# Altium footprint library LED.PcbLib: 55 footprints (part 4 of 4)
Each footprint in its own frame and in the unit in brackets; x right, y up, seen from the top. Pads: shape width x height; smd on the part's side, far side on the other; paste and mask are expansions set on the pad; w line width, h text height; cw(c..) or ccw(c..) is an arc to the next point about the centre after c.
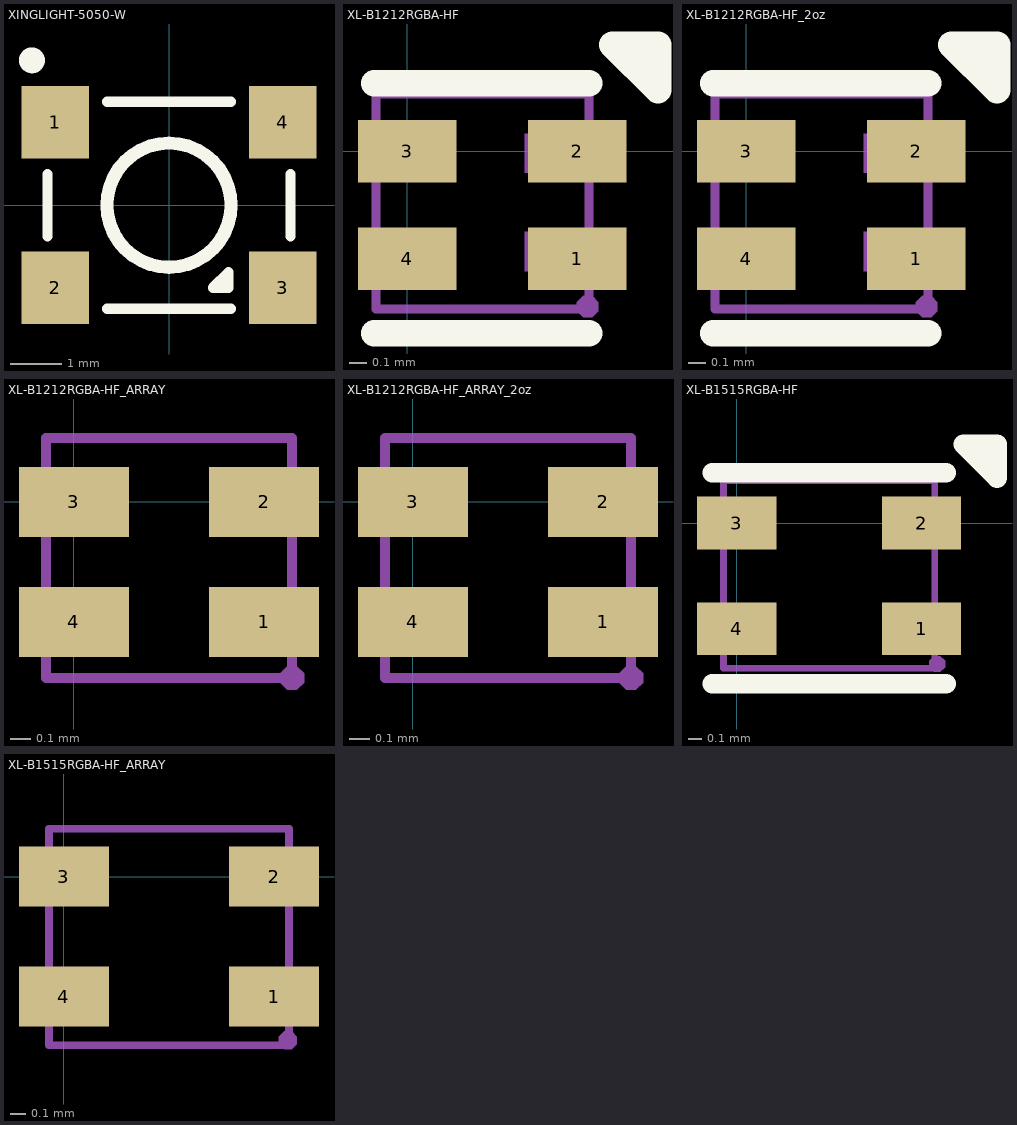
[diagram p3: the footprints below, top view; thin cyan lines are the x and y axes]

## XINGLIGHT-5050-W [mm] "XINGLIGHT(成兴光) SMD5050 推荐焊盘 白色"
pads (4):
  rect 1.3x1.4 smd: 1(-2.2,1.6) 2(-2.2,-1.6) 3(2.2,-1.6) 4(2.2,1.6)
Top Overlay:
  circle w0.25: c-2.65,2.8 r0.125
  circle w0.254: c0,0 r1.2
  lines w0.2: -2.35,-0.6 -2.35,0.6 ; -1.2,-2 1.2,-2 ; -1.2,2 1.2,2 ; 2.35,-0.6 2.35,0.6 ; 0.85,-1.6 1.15,-1.3 1.15,-1.6 0.85,-1.6
3D body "WS2812B-5050-W.step": height 1.58, standoff 0.01, extent -2.7,-2.5 2.7,2.5

## XL-B1212RGBA-HF [mm] "XL-B1212RGBA-HF 推荐焊盘 有标记版本"
pads (4):
  rect 0.55x0.35 smd mask+0.05: 1(0.95,-0.6) 2(0.95,0) 3(0,0) 4(0,-0.6)
Top Overlay:
  lines w0.15: -0.184,-1.016 1.016,-1.016 ; -0.184,0.381 1.016,0.381 ; 1.147,0.596 1.401,0.342 1.401,0.596 1.147,0.596
Mechanical 15:
  region: 0.655,0.1 1.005,0.1 1.005,-0.12 0.655,-0.12
  region: 0.655,-0.45 1.005,-0.45 1.005,-0.67 0.655,-0.67
  region: -0.175,-0.44 0.175,-0.44 0.175,-0.66 -0.175,-0.66
  region: -0.175,0.11 0.175,0.11 0.175,-0.11 -0.175,-0.11
  region: 1.068,-0.867 1.068,-0.892 1.032,-0.927 0.983,-0.927 0.948,-0.892 0.948,-0.867 0.948,-0.843 0.983,-0.807 1.032,-0.807 1.068,-0.843
  lines w0.051: -0.175,-0.88 -0.175,0.32 1.016,0.32 1.016,-0.88 -0.175,-0.88
3D body "XL-B1212RGBA-HF-无盖.STEP": height 0.9, standoff 0, extent -0.14,-0.88 1.09,0.32

## XL-B1212RGBA-HF_2oz [mm] "XL-B1212RGBA-HF 推荐焊盘 有标记版本 / 阻焊扩展为0.02，满足2oz铜厚以上的阻焊桥间距需要大于0.2mm的要求"
pads (4):
  rect 0.55x0.35 smd mask+0.02: 1(0.95,-0.6) 2(0.95,0) 3(0,0) 4(0,-0.6)
Top Overlay:
  lines w0.15: -0.184,-1.016 1.016,-1.016 ; -0.184,0.381 1.016,0.381 ; 1.147,0.596 1.401,0.596 1.401,0.342 1.147,0.596
Mechanical 15:
  region: 1.068,-0.867 1.068,-0.892 1.032,-0.927 0.983,-0.927 0.948,-0.892 0.948,-0.867 0.948,-0.843 0.983,-0.807 1.032,-0.807 1.068,-0.843
  region: -0.175,0.11 0.175,0.11 0.175,-0.11 -0.175,-0.11
  region: -0.175,-0.44 0.175,-0.44 0.175,-0.66 -0.175,-0.66
  region: 0.655,-0.45 1.005,-0.45 1.005,-0.67 0.655,-0.67
  region: 0.655,0.1 1.005,0.1 1.005,-0.12 0.655,-0.12
  lines w0.051: -0.175,-0.88 1.016,-0.88 1.016,0.32 -0.175,0.32 -0.175,-0.88
3D body "XL-B1212RGBA-HF-无盖.STEP": height 0.9, standoff 0, extent -0.14,-0.88 1.09,0.32

## XL-B1212RGBA-HF_ARRAY [mm] "XL-B1212RGBA-HF 推荐焊盘 阵列无标记版本"
pads (4):
  rect 0.55x0.35 smd mask+0.05: 1(0.95,-0.6) 2(0.95,0) 3(0,0) 4(0,-0.6)
Mechanical 15:
  region: 0.715,-0.45 1.065,-0.45 1.065,-0.67 0.715,-0.67
  region: -0.115,-0.45 0.235,-0.45 0.235,-0.67 -0.115,-0.67
  region: -0.115,0.11 0.235,0.11 0.235,-0.11 -0.115,-0.11
  region: 0.715,0.11 1.065,0.11 1.065,-0.11 0.715,-0.11
  region: 1.15,-0.88 1.15,-0.905 1.115,-0.94 1.065,-0.94 1.03,-0.905 1.03,-0.88 1.03,-0.855 1.065,-0.82 1.115,-0.82 1.15,-0.855
  lines w0.051: -0.14,-0.88 1.09,-0.88 1.09,0.32 -0.14,0.32 -0.14,-0.88
3D body "XL-B1212RGBA-HF-无盖.STEP": height 0.9, standoff 0, extent -0.14,-0.88 1.09,0.32

## XL-B1212RGBA-HF_ARRAY_2oz [mm] "XL-B1212RGBA-HF 推荐焊盘 阵列无标记版本 / 阻焊扩展为0.02，满足2oz铜厚以上的阻焊桥间距需要大于0.2mm的要求"
pads (4):
  rect 0.55x0.35 smd mask+0.02: 1(0.95,-0.6) 2(0.95,0) 3(0,0) 4(0,-0.6)
Mechanical 15:
  region: 0.715,-0.45 1.065,-0.45 1.065,-0.67 0.715,-0.67
  region: -0.115,-0.45 0.235,-0.45 0.235,-0.67 -0.115,-0.67
  region: -0.115,0.11 0.235,0.11 0.235,-0.11 -0.115,-0.11
  region: 0.715,0.11 1.065,0.11 1.065,-0.11 0.715,-0.11
  region: 1.15,-0.88 1.15,-0.905 1.115,-0.94 1.065,-0.94 1.03,-0.905 1.03,-0.88 1.03,-0.855 1.065,-0.82 1.115,-0.82 1.15,-0.855
  lines w0.051: -0.14,-0.88 1.09,-0.88 1.09,0.32 -0.14,0.32 -0.14,-0.88
3D body "XL-B1212RGBA-HF-无盖.STEP": height 0.9, standoff 0, extent -0.14,-0.88 1.09,0.32

## XL-B1515RGBA-HF [mm] "XL-B1515RGBA-HF 推荐焊盘 有标记版本"
pads (4):
  rect 0.6x0.4 smd mask+0.05: 1(1.4,-0.8) 2(1.4,0) 3(0,0) 4(0,-0.8)
Top Overlay:
  lines w0.15: -0.184,-1.216 1.586,-1.216 ; -0.184,0.381 1.586,0.381 ; 1.717,0.596 1.971,0.596 1.971,0.342 1.717,0.596
Mechanical 15:
  region: 1.18,0.075 1.53,0.075 1.53,-0.145 1.18,-0.145
  region: 1.18,-0.675 1.53,-0.675 1.53,-0.895 1.18,-0.895
  region: 1.577,-1.067 1.577,-1.092 1.542,-1.127 1.493,-1.127 1.457,-1.092 1.457,-1.067 1.457,-1.043 1.493,-1.007 1.542,-1.007 1.577,-1.043
  region: -0.175,0.11 0.175,0.11 0.175,-0.11 -0.175,-0.11
  region: -0.175,-0.64 0.175,-0.64 0.175,-0.86 -0.175,-0.86
  lines w0.051: -0.1,-1.1 1.5,-1.1 1.5,0.32 -0.1,0.32 -0.1,-1.1
3D body "XL-B1515RGBA-HF-无盖.STEP": height 1, standoff 0, extent -0.1,-1.15 1.5,0.35

## XL-B1515RGBA-HF_ARRAY [mm] "XL-B1515RGBA-HF 推荐焊盘 无标记版本"
pads (4):
  rect 0.6x0.4 smd mask+0.05: 1(1.4,-0.8) 2(1.4,0) 3(0,0) 4(0,-0.8)
Mechanical 15:
  region: -0.175,-0.64 0.175,-0.64 0.175,-0.86 -0.175,-0.86
  region: -0.175,0.11 0.175,0.11 0.175,-0.11 -0.175,-0.11
  region: 1.2,-0.64 1.55,-0.64 1.55,-0.86 1.2,-0.86
  region: 1.2,0.11 1.55,0.11 1.55,-0.11 1.2,-0.11
  region: 1.552,-1.092 1.552,-1.117 1.517,-1.152 1.468,-1.152 1.432,-1.117 1.432,-1.092 1.432,-1.068 1.468,-1.032 1.517,-1.032 1.552,-1.068
  lines w0.051: -0.1,-1.125 -0.1,0.32 1.5,0.32 1.5,-1.125 -0.1,-1.125
3D body "XL-B1515RGBA-HF-无盖.STEP": height 1, standoff 0, extent -0.1,-1.15 1.5,0.35